# Altium footprint library 8-SOIC(5.99x4.93).PcbLib: 1 footprints
Each footprint in its own frame and in the unit in brackets; x right, y up, seen from the top. Pads: shape width x height; smd on the part's side, far side on the other; paste and mask are expansions set on the pad; w line width, h text height; cw(c..) or ccw(c..) is an arc to the next point about the centre after c.
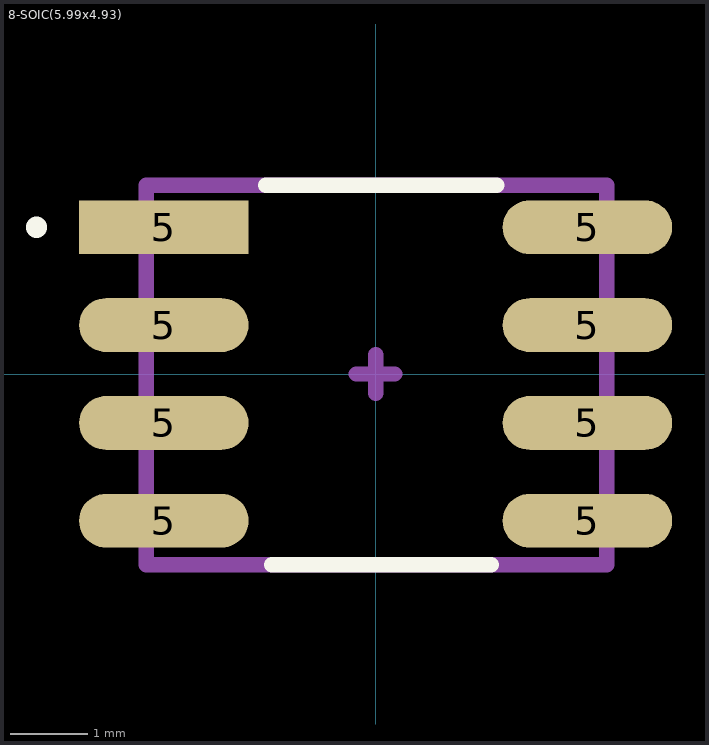
[diagram p0: the footprint, top view; thin cyan lines are the x and y axes]

## 8-SOIC(5.99x4.93) [mm]
pads (8):
  oval 2.2x0.7 smd mask+0: 5(-2.75,-1.905) 5(-2.75,-0.635) 5(-2.75,0.635) 5(2.75,-1.905) 5(2.75,-0.635) 5(2.75,0.635) 5(2.75,1.905)
  rect 2.2x0.7 smd mask+0: 5(-2.75,1.905)
Top Overlay:
  circle w0.254: c-4.401,1.905 r0.01
  lines w0.2: -1.425,2.45 1.575,2.45 ; -1.35,-2.475 1.5,-2.475
Mechanical 13 (Mech13):
  lines w0.2: 3,2.45 3,2.45 ; 3,2.45 -2.975,2.45 -2.975,-2.475 3,-2.475 3,2.45
Mechanical 15:
  lines w0.2: -0.25,0 0,0 ; 0,-0.25 0,0 ; 0,0.25 0,0 ; 0.25,0 0,0
3D body "8-SOIC(5.99x4.93).step": height 1.69, standoff 0.01, extent -3.099,-2.438 3.099,2.54